# Altium integrated library EG25-G.IntLib: 1 symbol
Pins are listed as number, name and electrical type; pins without a type are passive.

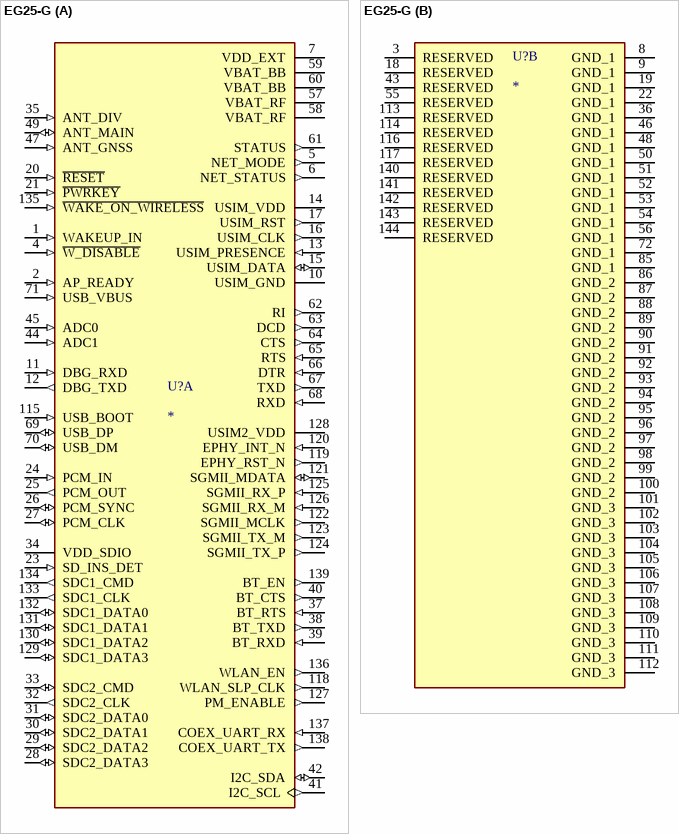
[diagram p0: symbol EG25-G]

## EG25-G
designator U?
MP: EG25-G; Availability: Unavailable; Value: *; Package: None; Price: None
footprint XCVR_EG25-G
part A pins: 1 WAKEUP_IN (in), 2 AP_READY (in), 4 ~{W_DISABLE} (in), 5 NET_MODE (out), 6 NET_STATUS (out), 7 VDD_EXT (power), 10 USIM_GND (power), 11 DBG_RXD (in), 12 DBG_TXD (out), 13 USIM_PRESENCE (in), 14 USIM_VDD (power), 15 USIM_DATA (io), 16 USIM_CLK (out), 17 USIM_RST (out), 20 ~{RESET} (in), 21 ~{PWRKEY} (in), 23 SD_INS_DET (in), 24 PCM_IN (in), 25 PCM_OUT (out), 26 PCM_SYNC (io), 27 PCM_CLK (io), 28 SDC2_DATA3 (io), 29 SDC2_DATA2 (io), 30 SDC2_DATA1 (io), 31 SDC2_DATA0 (io), 32 SDC2_CLK (out), 33 SDC2_CMD (io), 34 VDD_SDIO (power), 35 ANT_DIV (in), 37 BT_RTS (in), 38 BT_TXD (out), 39 BT_RXD (in), 40 BT_CTS (out), 41 I2C_SCL (out), 42 I2C_SDA (io), 44 ADC1 (in), 45 ADC0 (in), 47 ANT_GNSS (in), 49 ANT_MAIN (io), 57 VBAT_RF (power), 58 VBAT_RF (power), 59 VBAT_BB (power), 60 VBAT_BB (power), 61 STATUS (out), 62 RI (out), 63 DCD (out), 64 CTS (out), 65 RTS (in), 66 DTR (in), 67 TXD (out), 68 RXD (in), 69 USB_DP (io), 70 USB_DM (io), 71 USB_VBUS (in), 115 USB_BOOT (in), 118 WLAN_SLP_CLK (out), 119 EPHY_RST_N (out), 120 EPHY_INT_N (in), 121 SGMII_MDATA (io), 122 SGMII_MCLK (out), 123 SGMII_TX_M (out), 124 SGMII_TX_P (out), 125 SGMII_RX_P (in), 126 SGMII_RX_M (in), 127 PM_ENABLE (out), 128 USIM2_VDD (power), 129 SDC1_DATA3 (io), 130 SDC1_DATA2 (io), 131 SDC1_DATA1 (io), 132 SDC1_DATA0 (io), 133 SDC1_CLK (out), 134 SDC1_CMD (out), 135 ~{WAKE_ON_WIRELESS} (in), 136 WLAN_EN (out), 137 COEX_UART_RX (in), 138 COEX_UART_TX (out), 139 BT_EN (out)
part B pins: 3 RESERVED, 8 GND_1 (power), 9 GND_1 (power), 18 RESERVED, 19 GND_1 (power), 22 GND_1 (power), 36 GND_1 (power), 43 RESERVED, 46 GND_1 (power), 48 GND_1 (power), 50 GND_1 (power), 51 GND_1 (power), 52 GND_1 (power), 53 GND_1 (power), 54 GND_1 (power), 55 RESERVED, 56 GND_1 (power), 72 GND_1 (power), 85 GND_1 (power), 86 GND_2 (power), 87 GND_2 (power), 88 GND_2 (power), 89 GND_2 (power), 90 GND_2 (power), 91 GND_2 (power), 92 GND_2 (power), 93 GND_2 (power), 94 GND_2 (power), 95 GND_2 (power), 96 GND_2 (power), 97 GND_2 (power), 98 GND_2 (power), 99 GND_2 (power), 100 GND_2 (power), 101 GND_3 (power), 102 GND_3 (power), 103 GND_3 (power), 104 GND_3 (power), 105 GND_3 (power), 106 GND_3 (power), 107 GND_3 (power), 108 GND_3 (power), 109 GND_3 (power), 110 GND_3 (power), 111 GND_3 (power), 112 GND_3 (power), 113 RESERVED, 114 RESERVED, 116 RESERVED, 117 RESERVED, 140 RESERVED, 141 RESERVED, 142 RESERVED, 143 RESERVED, 144 RESERVED